# Altium footprint library MicroController_DevBoard.PcbLib: 2 footprints
Each footprint in its own frame and in the unit in brackets; x right, y up, seen from the top. Pads: shape width x height; smd on the part's side, far side on the other; paste and mask are expansions set on the pad; w line width, h text height; cw(c..) or ccw(c..) is an arc to the next point about the centre after c.
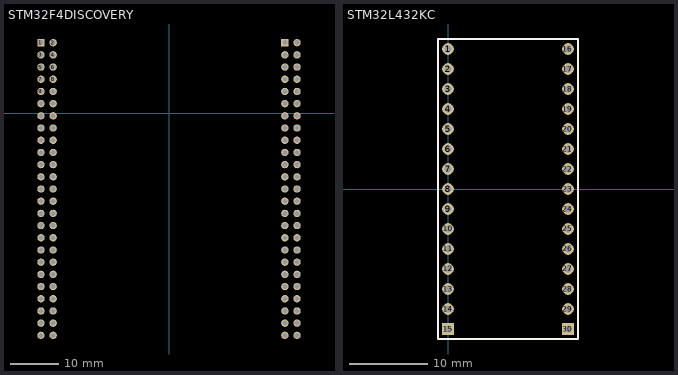
[diagram p0: the footprints below, top view; thin cyan lines are the x and y axes]

## STM32F4DISCOVERY [mil]
pads (100):
  rect 60x60 hole 40: 1(-1050,577.95) 51(950,577.95)
  round 60 hole 40: 2(-950,577.95) 3(-1050,477.95) 4(-950,477.95) 5(-1050,377.95) 6(-950,377.95) 7(-1050,277.95) 8(-950,277.95) 9(-1050,177.95) 10(-950,177.95) 11(-1050,77.95) 12(-950,77.95) 13(-1050,-22.05) 14(-950,-22.05) 15(-1050,-122.05) 16(-950,-122.05) 17(-1050,-222.05) 18(-950,-222.05) 19(-1050,-322.05) 20(-950,-322.05) 21(-1050,-422.05) 22(-950,-422.05) 23(-1050,-522.05) 24(-950,-522.05) 25(-1050,-622.05) 26(-950,-622.05) 27(-1050,-722.05) 28(-950,-722.05) 29(-1050,-822.05) 30(-950,-822.05) 31(-1050,-922.05) 32(-950,-922.05) 33(-1050,-1022.05) 34(-950,-1022.05) 35(-1050,-1122.05) 36(-950,-1122.05) 37(-1050,-1222.05) 38(-950,-1222.05) 39(-1050,-1322.05) 40(-950,-1322.05) 41(-1050,-1422.05) 42(-950,-1422.05) 43(-1050,-1522.05) 44(-950,-1522.05) 45(-1050,-1622.05) 46(-950,-1622.05) 47(-1050,-1722.05) 48(-950,-1722.05) 49(-1050,-1822.05) 50(-950,-1822.05) 52(1050,577.95) 53(950,477.95) 54(1050,477.95) 55(950,377.95) 56(1050,377.95) 57(950,277.95) 58(1050,277.95) 59(950,177.95) 60(1050,177.95) 61(950,77.95) 62(1050,77.95) 63(950,-22.05) 64(1050,-22.05) 65(950,-122.05) 66(1050,-122.05) 67(950,-222.05) 68(1050,-222.05) 69(950,-322.05) 70(1050,-322.05) 71(950,-422.05) 72(1050,-422.05) 73(950,-522.05) 74(1050,-522.05) 75(950,-622.05) 76(1050,-622.05) 77(950,-722.05) 78(1050,-722.05) 79(950,-822.05) 80(1050,-822.05) 81(950,-922.05) 82(1050,-922.05) 83(950,-1022.05) 84(1050,-1022.05) 85(950,-1122.05) 86(1050,-1122.05) 87(950,-1222.05) 88(1050,-1222.05) 89(950,-1322.05) 90(1050,-1322.05) 91(950,-1422.05) 92(1050,-1422.05) 93(950,-1522.05) 94(1050,-1522.05) 95(950,-1622.05) 96(1050,-1622.05) 97(950,-1722.05) 98(1050,-1722.05) 99(950,-1822.05) 100(1050,-1822.05)
3D body "stm30f4.STEP": height 966.64, standoff -214.46, extent -1280,-2065.59 1298.74,1910

## STM32L432KC [mm] "NUCLEO-L432KC DevBoard"
height 0.127
pads (30):
  round 1.5 hole 0.9: 1(0,17.78) 2(0,15.24) 3(0,12.7) 4(0,10.16) 5(0,7.62) 6(0,5.08) 7(0,2.54) 8(0,0) 9(0,-2.54) 10(0,-5.08) 11(0,-7.62) 12(0,-10.16) 13(0,-12.7) 14(0,-15.24) 16(15.24,17.78) 17(15.24,15.24) 18(15.24,12.7) 19(15.24,10.16) 20(15.24,7.62) 21(15.24,5.08) 22(15.24,2.54) 23(15.24,0) 24(15.24,-2.54) 25(15.24,-5.08) 26(15.24,-7.62) 27(15.24,-10.16) 28(15.24,-12.7) 29(15.24,-15.24)
  rect 1.5x1.5 hole 0.9: 15(0,-17.78) 30(15.24,-17.78)
Top Overlay:
  lines w0.2: 13.97,-19.05 16.51,-19.05 16.51,19.05 13.97,19.05 ; 14.097,-19.05 -1.27,-19.05 -1.27,-17.145 -1.27,19.05 14.097,19.05